# Altium footprint library LTE.PcbLib: 1 footprints
Each footprint in its own frame and in the unit in brackets; x right, y up, seen from the top. Pads: shape width x height; smd on the part's side, far side on the other; paste and mask are expansions set on the pad; w line width, h text height; cw(c..) or ccw(c..) is an arc to the next point about the centre after c.
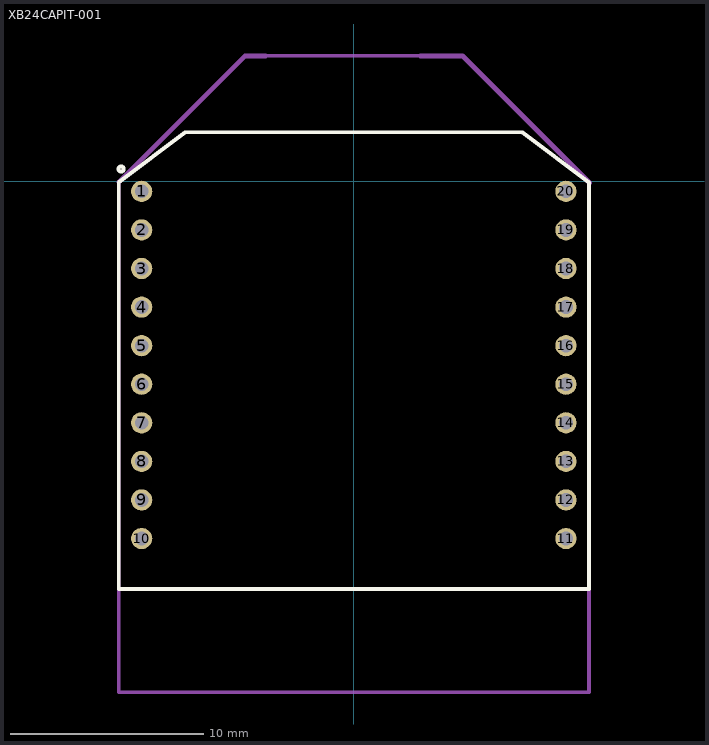
[diagram p0: the footprint, top view; thin cyan lines are the x and y axes]

## XB24CAPIT-001 [mm]
pads (20):
  round 1.1 hole 0.71: 1(-11,-0.525) 2(-11,-2.525) 3(-11,-4.525) 4(-11,-6.525) 5(-11,-8.525) 6(-11,-10.525) 7(-11,-12.525) 8(-11,-14.525) 9(-11,-16.525) 10(-11,-18.525) 11(11,-18.525) 12(11,-16.525) 13(11,-14.525) 14(11,-12.525) 15(11,-10.525) 16(11,-8.525) 17(11,-6.525) 18(11,-4.525) 19(11,-2.525) 20(11,-0.525)
Top Overlay:
  circle w0.2: c-12.065,0.633 r0.133
  lines w0.2: -12.19,-21.135 12.19,-21.135 12.19,-0.055 8.739,2.538 -8.739,2.538 -12.19,-0.055 -12.19,-21.135
Mechanical 13:
  lines w0.2: -12.19,-0.055 -12.19,-26.492 12.19,-26.492 12.19,-0.055 ; -4.572,6.502 3.464,6.502
  lines w0.254: -12.19,-0.055 -5.633,6.502 -4.572,6.502 ; 3.464,6.502 5.633,6.502 12.217,-0.082
3D body: height 6.73, standoff 2.54, extent -12.19,-26.492 12.19,6.502